# Altium footprint library salih_pcb.PcbLib: 32 footprints (part 2 of 2)
Each footprint in its own frame and in the unit in brackets; x right, y up, seen from the top. Pads: shape width x height; smd on the part's side, far side on the other; paste and mask are expansions set on the pad; w line width, h text height; cw(c..) or ccw(c..) is an arc to the next point about the centre after c.
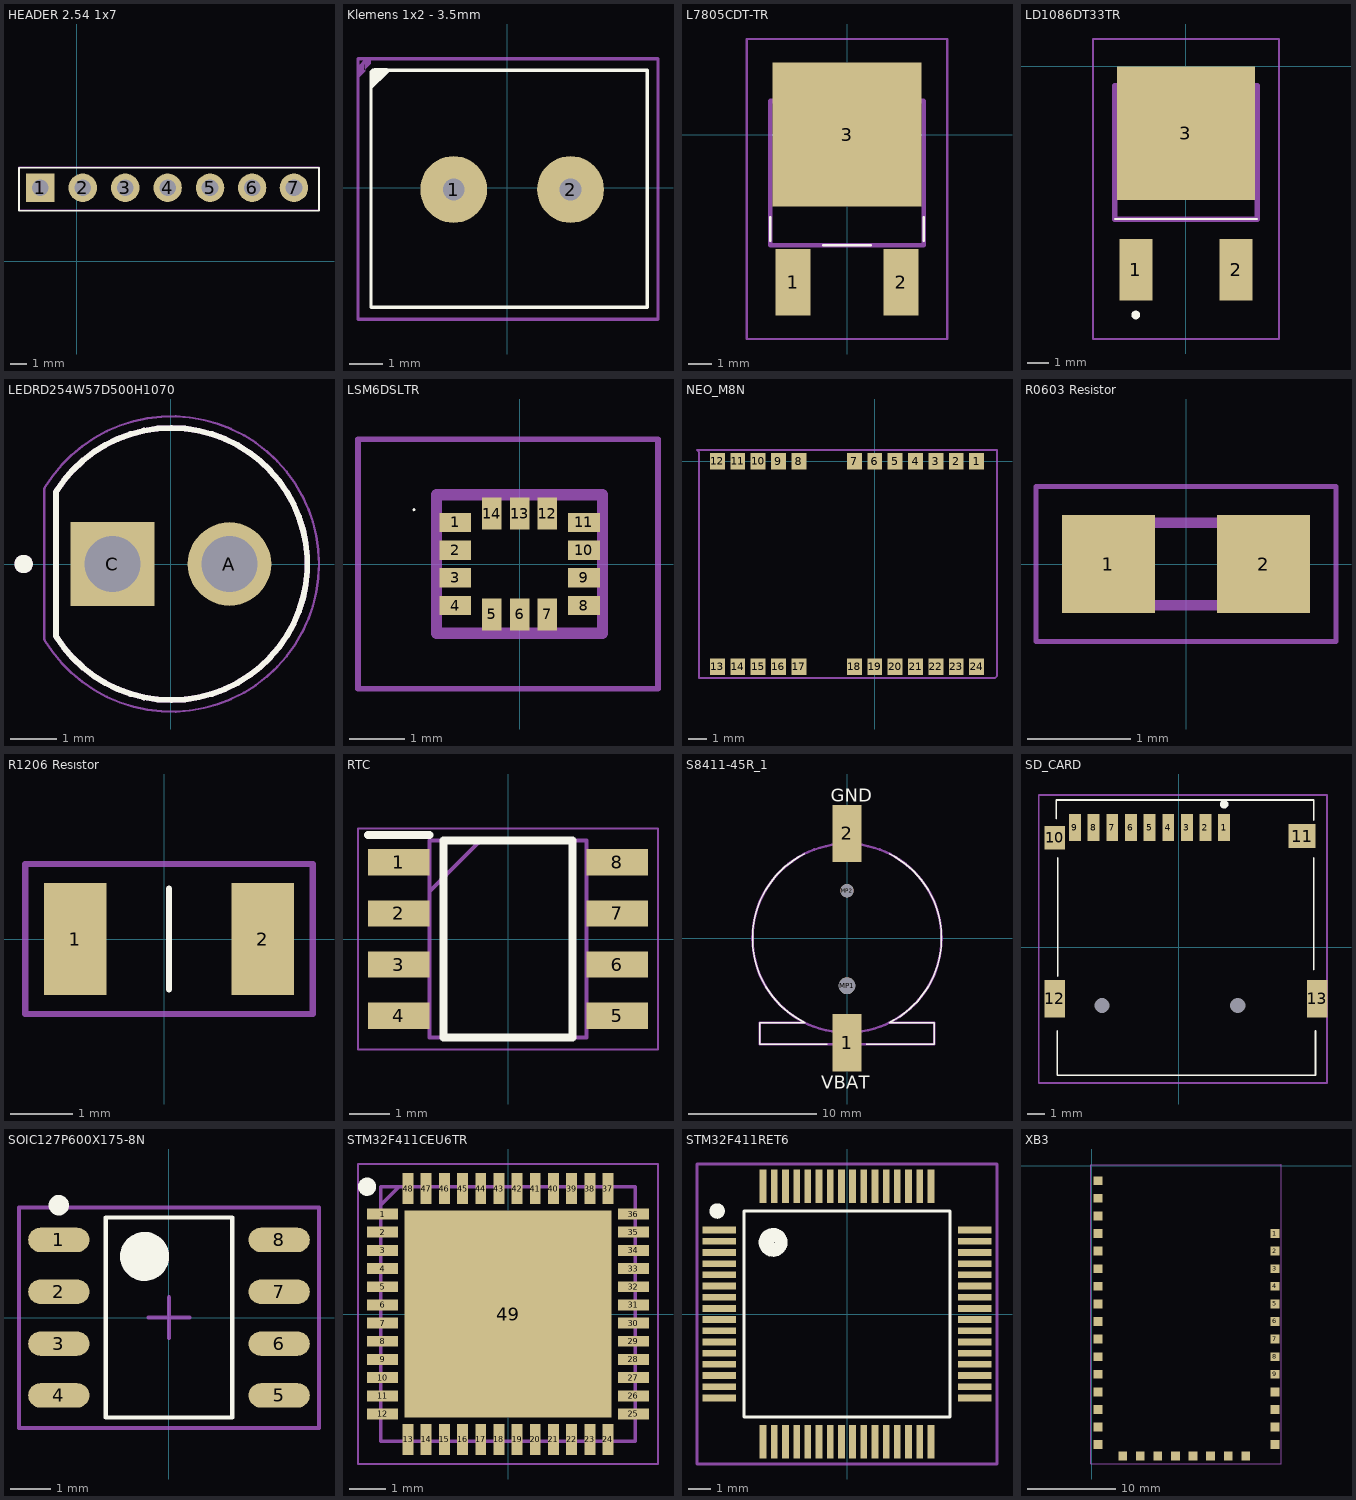
[diagram p1: the footprints below, top view; thin cyan lines are the x and y axes]

## HEADER 2.54 1x7 [mm]
pads (7):
  rect 1.7x1.7 hole 1 mask+0.05: 1(-2.18,4.4)
  round 1.7 hole 1 mask+0.05: 2(0.36,4.4) 3(2.9,4.4) 4(5.44,4.4) 5(7.98,4.4) 6(10.5,4.4) 7(13,4.4)
Top Overlay:
  lines w0.1: -3.455,3.025 14.5,3.025 14.5,5.6 -3.455,5.6 -3.455,3.025
Mechanical 3:
  lines w0.1: -3.455,3.05 14.5,3.05 14.5,5.625 -3.455,5.625 -3.455,3.05
3D body "SSW-107-01-L-S.stp": height 8.51, standoff -2.64, extent -3.7,3.2 14.588,5.613

## Klemens 1x2 - 3.5mm [mm] "2'li 3.50mm Klemens"
pads (2):
  round 2 hole 0.65: 1(-1.6,-0.05) 2(1.9,-0.05)
Top Overlay:
  region: -3.533,3.482 -4.106,2.909 -4.106,3.444 -3.972,3.577 -3.593,3.577
  lines w0.1: -4.075,3.475 -4.075,-3.575 4.2,-3.575 4.2,3.525 -4.025,3.525
Mechanical 3:
  region: -4.248,3.86 -4.464,3.644 -4.464,3.861 -4.462,3.86 -4.248,3.86 -4.248,3.496 -4.462,3.282 -4.462,3.86 -4.248,3.86 -4.241,3.853 -4.082,3.853 -4.082,3.709 -4.285,3.507
  lines w0.1: -4.462,-3.922 -4.453,-3.931 4.517,-3.931 4.517,3.86 -4.248,3.86 -4.462,3.86 -4.462,-3.922
3D body "terminal_blocks_a-tb350-te02.stp": height 8.9, standoff -3.29, extent -3.9,-3.45 4.094,3.55

## L7805CDT-TR [mm] "IC REG LINEAR 5V 1.5A DPAK"
pads (3):
  rect 1.5x2.8 smd: 1(-2.286,-6.25) 2(2.286,-6.25)
  rect 6.3x6.1 smd: 3(0,0)
Top Overlay:
  lines w0.1: -3.25,-4.5 -3.25,-3.5 ; -1,-4.676 1,-4.676 ; 3.25,-4.5 3.25,-3.5
Mechanical 13:
  lines w0.2: -3.25,-4.676 -3.25,1.424 3.25,1.424 3.25,-4.676 -3.25,-4.676
Mechanical 15:
  lines w0.1: -4.25,-8.65 -4.25,4.05 4.25,4.05 4.25,-8.65 -4.25,-8.65
3D body "L7805CDT-TR.stp": height 2.63, standoff 0.01, extent -3.3,-7.383 3.3,2.78

## LD1086DT33TR [mm] "IC REG LINEAR 3.3V 1.5A DPAK"
pads (3):
  rect 1.5x2.8 smd: 1(-2.286,-9.3) 2(2.286,-9.3)
  rect 6.3x6.1 smd: 3(0,-3.05)
Top Overlay:
  lines w0.1: -3.25,-6.981 3.25,-6.981
  lines w0.198: -2.395,-11.36 ccw(c-2.296,-11.36) -2.197,-11.36 ccw(c-2.296,-11.36) -2.395,-11.36
Mechanical 13:
  lines w0.254: -3.25,-6.981 3.25,-6.981 3.25,-0.881 -3.25,-0.881 -3.25,-6.981
Mechanical 15:
  lines w0.1: -4.25,-12.459 4.25,-12.459 4.25,1.25 -4.25,1.25 -4.25,-12.459
3D body "LD1086DT33TR.stp": height 2.53, standoff 0, extent -3.3,-10.115 3.3,-0.39

## LEDRD254W57D500H1070 [mm]
pads (2):
  round 1.815 hole 1.21: A(1.27,0)
  rect 1.815x1.815 / inner round 1.815 / far side rect 1.815x1.815 hole 1.21: C(-1.27,0)
Top Overlay:
  circle w0.2: c-3.2,0 r0.1
  lines w0.127: -2.5,-1.566 ccw(c0.006,0) -2.5,1.566 -2.5,-1.566
Mechanical 13:
  circle w0.2: c-3.2,0 r0.1
  lines w0.127: -2.5,-1.566 ccw(c0.006,0) -2.5,1.566 -2.5,-1.566
Mechanical 15:
  lines w0.05: -2.75,-1.64 -2.75,1.64 ; -2.743,-1.652 ccw(c0.007,0) -2.743,1.652
3D body "step_temp.STEP": height 9.1, standoff -17.8, extent -2.6,-2.95 2.95,2.95

## LSM6DSLTR [mm] "IMU ACCEL/GYRO I2C/SPI 14LGA"
pads (14):
  rect 0.575x0.35 smd mask+0.05: 1(-1.163,0.75) 2(-1.163,0.25) 3(-1.163,-0.25) 4(-1.163,-0.75) 8(1.163,-0.75) 9(1.163,-0.25) 10(1.163,0.25) 11(1.163,0.75)
  rect 0.35x0.575 smd mask+0.05: 5(-0.5,-0.912) 6(0,-0.912) 7(0.5,-0.912) 12(0.5,0.912) 13(0,0.912) 14(-0.5,0.912)
Top Overlay:
  lines w0.027: -1.918,0.98 cw(c-1.904,0.98) -1.89,0.98 cw(c-1.904,0.98) -1.918,0.98
Mechanical 13:
  lines w0.2: -1.5,-1.25 -1.5,1.25 1.5,1.25 1.5,-1.25 -1.5,-1.25
Mechanical 15:
  lines w0.1: -2.918,-2.25 -2.918,2.25 2.5,2.25 2.5,-2.25 -2.918,-2.25
3D body "LSM6DSLTR.stp": height 0.86, standoff 0, extent -1.5,-1.25 1.5,1.25

## NEO_M8N [mm]
pads (24):
  rect 0.8x0.9 smd: 1(5.5,0) 2(4.4,0) 3(3.3,0) 4(2.2,0) 5(1.1,0) 6(0,0) 7(-1.1,0) 8(-4.1,0) 9(-5.2,0) 10(-6.3,0) 11(-7.4,0) 12(-8.5,0) 13(-8.5,-11.1) 14(-7.4,-11.1) 15(-6.3,-11.1) 16(-5.2,-11.1) 17(-4.1,-11.1) 18(-1.1,-11.1) 19(0,-11.1) 20(1.1,-11.1) 21(2.2,-11.1) 22(3.3,-11.1) 23(4.4,-11.1) 24(5.5,-11.1)
Mechanical 3:
  lines w0.1: -9.6,0.6 -9.5,0.5 -9.5,-11.7 6.5,-11.7 6.6,-11.6 6.6,0.6 -9.6,0.6
3D body "NEO-M8N-0.stp": height 2.6, standoff 0, extent -9.5,-11.7 6.5,0.5

## R0603 Resistor [mm] "Chip Resistor 0603"
pads (2):
  rect 0.9x0.95 smd: 1(-0.75,0) 2(0.75,0)
Mechanical 13:
  lines w0.1: -0.775,-0.4 0.775,-0.4 0.775,0.4 -0.775,0.4 -0.775,-0.4
Mechanical 15:
  lines w0.05: -1.45,-0.75 1.45,-0.75 1.45,0.75 -1.45,0.75 -1.45,-0.75
3D body "CPF0603B102KE1.stp": height 0.55, standoff 0, extent -0.775,-0.4 0.775,0.4

## R1206 Resıstor [mm] "Chip Resistor 1206"
pads (2):
  rect 1x1.8 smd mask+0.05: 1(-1.425,0) 2(1.575,0)
Top Overlay:
  lines w0.1: 0.075,-0.805 0.075,0.805
Mechanical 3:
  lines w0.1: -2.225,-1.2 2.375,-1.2 2.375,1.2 -2.225,1.2 -2.225,-1.2
3D body "1206RES.step": height 0.55, standoff 0, extent -1.525,-0.805 1.675,0.805

## RTC [mm]
pads (8):
  rect 1.525x0.65 smd: 1(-2.712,1.905) 2(-2.712,0.635) 3(-2.712,-0.635) 4(-2.712,-1.905) 5(2.712,-1.905) 6(2.712,-0.635) 7(2.712,0.635) 8(2.712,1.905)
Top Overlay:
  lines w0.2: -3.475,2.58 -1.95,2.58 ; -1.6,-2.45 -1.6,2.45 1.6,2.45 1.6,-2.45 -1.6,-2.45
Mechanical 15:
  lines w0.1: -1.95,1.18 -0.68,2.45 ; -1.95,-2.45 -1.95,2.45 1.95,2.45 1.95,-2.45 -1.95,-2.45
Mechanical 20:
  lines w0.05: -3.725,-2.75 -3.725,2.75 3.725,2.75 3.725,-2.75 -3.725,-2.75
3D body "DS1307Z+.stp": height 1.75, standoff 0, extent -3,-2.45 3,2.45

## S8411-45R_1 [mm] "Coin Cell Battery Holder"
pads (4):
  rect 2.3x4.5 smd: 1(0,-8.2) 2(0,8.2)
  round 1.3 hole 1.3 unplated: MP1(0,-3.725)
  round 1.05 hole 1.05 unplated: MP2(0,3.725)
Top Overlay:
  lines w0.1: -3.302,6.623 ccw(c0,0) -3.29,-6.628 ; -3.27,-6.625 -6.832,-6.625 -6.832,-8.307 -1.553,-8.307 ; 1.49,-8.307 6.832,-8.307 6.832,-6.625 3.296,-6.625 ; 3.29,6.628 cw(c0,0) 3.302,-6.623
  text "GND" at -1.27,10.668 h1.02
  text "VBAT" at -2.032,-11.811 h1.02
Mechanical 13:
  circle w0.2: c0,0 r7.4
  lines w0.2: -3.297,-6.625 -6.832,-6.625 -6.832,-8.307 6.832,-8.307 6.832,-6.625 3.27,-6.625
3D body "S8411-45R.stp": height 4.48, standoff -0.77, extent -7.374,-9.6 7.374,9.601

## SD_CARD [mm] "L-KLS1-TF-003-H1.85-R"
pads (15):
  rect 0.7x1.6 smd paste+0 mask+0: 1(2.684,7.075) 2(1.584,7.075) 3(0.484,7.075) 4(-0.616,7.075) 5(-1.716,7.075) 6(-2.816,7.075) 7(-3.916,7.075) 8(-5.016,7.075) 9(-6.116,7.075)
  rect 1.2x1.4 smd paste+0 mask+0: 10(-7.316,6.475)
  rect 1.6x1.4 smd paste+0 mask+0: 11(7.284,6.575)
  rect 1.2x2.2 smd paste+0 mask+0: 12(-7.316,-3.025) 13(8.184,-3.025)
  round 0 hole 0.9 unplated paste-2539.97 mask+0: ""(-4.516,-3.425) ""(3.484,-3.425)
Top Overlay:
  circle w0.25: c2.684,8.45 r0.125
  lines w0.1: -7.225,7.6 -7.225,8.7 7.975,8.7 7.975,7.5 ; -7.157,-4.925 -7.157,-7.548 8.075,-7.548 8.075,-4.925 ; -7.125,-1.7 -7.125,5.3 ; 7.975,-1.3 7.975,5.3
Mechanical 3:
  lines w0.1: -8.25,-8 -8.25,9 -7.75,9 8.5,9 8.75,9 8.75,-8 -8.25,-8
3D body "L-KLS1-TF-003-H1.85-R.stp": height 1.85, standoff -0.6, extent -7.65,-7.5 8.45,7.703

## SOIC127P600X175-8N [mm] "SOIC, 8-Leads, Body 4,90x3,90mm, Pitch 1,27mm, IPC Medium Density"
height 1.75
pads (8):
  oval 1.5x0.6 smd: 1(-2.7,1.905) 2(-2.7,0.635) 3(-2.7,-0.635) 4(-2.7,-1.905) 5(2.7,-1.905) 6(2.7,-0.635) 7(2.7,0.635) 8(2.7,1.905)
Top Overlay:
  circle w0.25: c-2.7,2.755 r0.125
  circle w0.6: c-0.6,1.5 r0.3
  lines w0.1: -1.55,-2.45 -1.55,2.45 1.55,2.45 1.55,-2.45 -1.55,-2.45
Mechanical 3:
  lines w0.1: -0.5,0 0.5,0 ; 0,-0.5 0,0.5 ; -3.675,-2.7 -3.675,2.7 3.675,2.7 3.675,-2.7 -3.675,-2.7
3D body "SOIC127P600X175-8N.step": height 1.75, standoff 0, extent -3,-2.45 3,2.45

## STM32F411CEU6TR [mm] "IC MCU 32BIT 512KB FLSH 48UFQFPN"
pads (49):
  rect 0.85x0.3 smd mask+0.07: 1(-3.45,2.75) 2(-3.45,2.25) 3(-3.45,1.75) 4(-3.45,1.25) 5(-3.45,0.75) 6(-3.45,0.25) 7(-3.45,-0.25) 8(-3.45,-0.75) 9(-3.45,-1.25) 10(-3.45,-1.75) 11(-3.45,-2.25) 12(-3.45,-2.75) 25(3.45,-2.75) 26(3.45,-2.25) 27(3.45,-1.75) 28(3.45,-1.25) 29(3.45,-0.75) 30(3.45,-0.25) 31(3.45,0.25) 32(3.45,0.75) 33(3.45,1.25) 34(3.45,1.75) 35(3.45,2.25) 36(3.45,2.75)
  rect 0.3x0.85 smd mask+0.07: 13(-2.75,-3.45) 14(-2.25,-3.45) 15(-1.75,-3.45) 16(-1.25,-3.45) 17(-0.75,-3.45) 18(-0.25,-3.45) 19(0.25,-3.45) 20(0.75,-3.45) 21(1.25,-3.45) 22(1.75,-3.45) 23(2.25,-3.45) 24(2.75,-3.45) 37(2.75,3.45) 38(2.25,3.45) 39(1.75,3.45) 40(1.25,3.45) 41(0.75,3.45) 42(0.25,3.45) 43(-0.25,3.45) 44(-0.75,3.45) 45(-1.25,3.45) 46(-1.75,3.45) 47(-2.25,3.45) 48(-2.75,3.45)
  rect 5.7x5.7 smd mask+0.07: 49(0,0)
Top Overlay:
  circle w0.25: c-3.875,3.5 r0.125
Mechanical 13:
  lines w0.1: -3.5,3 -3,3.5 ; -3.5,-3.5 3.5,-3.5 3.5,3.5 -3.5,3.5 -3.5,-3.5
Mechanical 15:
  lines w0.05: -4.125,-4.125 4.125,-4.125 4.125,4.125 -4.125,4.125 -4.125,-4.125
3D body "STM32F411CEU6.stp": height 0.6, standoff 0, extent -3.55,-3.55 3.55,3.55

## STM32F411RET6 [mm]
pads (64):
  rect 1.5x0.3 smd: 1(-5.7,3.75) 2(-5.7,3.25) 3(-5.7,2.75) 4(-5.7,2.25) 5(-5.7,1.75) 6(-5.7,1.25) 7(-5.7,0.75) 8(-5.7,0.25) 9(-5.7,-0.25) 10(-5.7,-0.75) 11(-5.7,-1.25) 12(-5.7,-1.75) 13(-5.7,-2.25) 14(-5.7,-2.75) 15(-5.7,-3.25) 16(-5.7,-3.75) 33(5.7,-3.75) 34(5.7,-3.25) 35(5.7,-2.75) 36(5.7,-2.25) 37(5.7,-1.75) 38(5.7,-1.25) 39(5.7,-0.75) 40(5.7,-0.25) 41(5.7,0.25) 42(5.7,0.75) 43(5.7,1.25) 44(5.7,1.75) 45(5.7,2.25) 46(5.7,2.75) 47(5.7,3.25) 48(5.7,3.75)
  rect 0.3x1.5 smd: 17(-3.75,-5.7) 18(-3.25,-5.7) 19(-2.75,-5.7) 20(-2.25,-5.7) 21(-1.75,-5.7) 22(-1.25,-5.7) 23(-0.75,-5.7) 24(-0.25,-5.7) 25(0.25,-5.7) 26(0.75,-5.7) 27(1.25,-5.7) 28(1.75,-5.7) 29(2.25,-5.7) 30(2.75,-5.7) 31(3.25,-5.7) 32(3.75,-5.7) 49(3.75,5.7) 50(3.25,5.7) 51(2.75,5.7) 52(2.25,5.7) 53(1.75,5.7) 54(1.25,5.7) 55(0.75,5.7) 56(0.25,5.7) 57(-0.25,5.7) 58(-0.75,5.7) 59(-1.25,5.7) 60(-1.75,5.7) 61(-2.25,5.7) 62(-2.75,5.7) 63(-3.25,5.7) 64(-3.75,5.7)
Top Overlay:
  circle w0.127: c-3.3,3.2 r0.583
  circle w0.127: c-3.3,3.2 r0.566
  circle w0.127: c-3.3,3.2 r0.5
  circle w0.127: c-3.3,3.2 r0.424
  circle w0.127: c-3.3,3.2 r0.283
  circle w0.127: c-3.3,3.2 r0.361
  circle w0.127: c-3.3,3.2 r0.141
  circle w0.127: c-3.3,3.2 r0.224
  circle w0.127: c-3.4,3.2 r0.1
  circle w0.127: c-5.8,4.6 r0.283
  circle w0.127: c-5.8,4.6 r0.224
  circle w0.127: c-5.8,4.6 r0.141
  circle w0.127: c-5.8,4.6 r0.1
  circle w0.127: c-5.8,4.6 r0.141
  circle w0.127: c-5.9,4.6 r0.1
  lines w0.127: -4.6,-4.6 4.6,-4.6 4.6,4.6 -4.6,4.6 -4.6,-4.6
Mechanical 15:
  lines w0.127: -6.7,-6.7 6.7,-6.7 6.7,6.7 -6.7,6.7 -6.7,-6.7
3D body "step_temp.STEP": height 1.6, standoff 0, extent -6,-6 6,6

## XB3 [mm]
pads (37):
  rect 1x1 smd: 1(20.8,-7.7) 2(20.8,-9.7) 3(20.8,-11.7) 4(20.8,-13.7) 5(20.8,-15.7) 6(20.8,-17.7) 7(20.8,-19.7) 8(20.8,-21.7) 9(20.8,-23.7) 10(20.8,-25.7) 11(20.8,-27.7) 12(20.8,-29.7) 13(20.8,-31.7) 14(17.5,-33) 15(15.5,-33) 16(13.5,-33) 17(11.5,-33) 18(9.5,-33) 19(7.5,-33) 20(5.5,-33) 21(3.5,-33) 22(0.7,-31.7) 23(0.7,-29.7) 24(0.7,-27.7) 25(0.7,-25.7) 26(0.7,-23.7) 27(0.7,-21.7) 28(0.7,-19.7) 29(0.7,-17.7) 30(0.7,-15.7) 31(0.7,-13.7) 32(0.7,-11.7) 33(0.7,-9.7) 34(0.7,-7.7) 35(0.7,-5.7) 36(0.7,-3.7) 37(0.7,-1.7)
Mechanical 3:
  lines w0.1: -0.1,-33.9 -0.1,0.1 21.4,0.1 21.5,0.2 21.5,-33.9 -0.1,-33.9
3D body "XB3-24Z8US-J.stp": height 0, standoff -2.1, extent 0,-33.78 21.49,0